# Altium integrated library TI Microcontroller MSP430 16-bit Ultra-Low Power.IntLib: 1463 symbols (part 74 of 130)
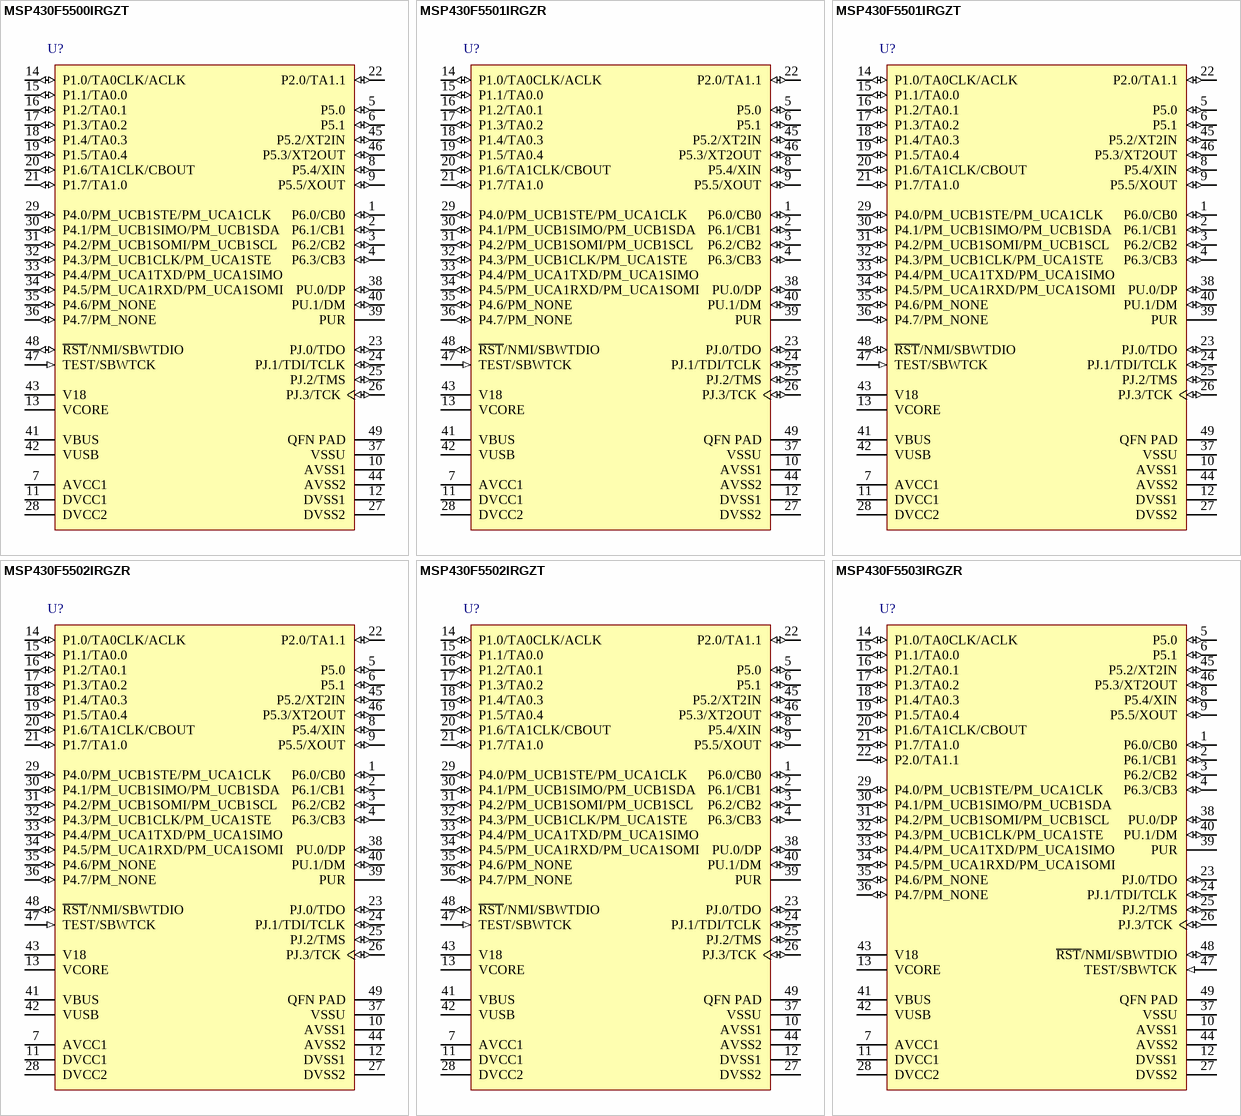
[diagram p372: symbols MSP430F5500IRGZT to MSP430F5503IRGZR]

## MSP430F5502IRGZT
designator U?
25 MHz Mixed Signal Microcontroller with 24 KB Flash, 4096 B SRAM and 31 GPIOs, -40 to 85 degC, 48-pin QFN (RGZ), Green (RoHS & no Sb/Br); Manufacturer: Texas Instruments; PartNumber: MSP430F5502IRGZT; Brown Out Reset: Yes; DMA: 3; Flash(KB): 24; Frequency(MHz): 25; GPIO: 31; Multiplier: 32x32; SRAM(B): 4096; SubFamily: 5 Series; Timers - 16-bit: 4; USB: 1; DatasheetVersion: SLAS645G; PackageVersion: 4204101/F; PackageReference: RGZ48-5150X5150TP; PackageDescription: 48-Pin Plastic Flat Pack, Body 7 x 7 mm, Pitch 0.5 mm; Supplier 1: Digi-Key; Supplier Part Number 1: 296-27554-2-ND; Supplier 2: Digi-Key; Supplier Part Number 2: 296-27554-1-ND; Supplier 3: Digi-Key; Supplier Part Number 3: 296-27554-6-ND; Supplier 4: Farnell; Supplier Part Number 4: 1866792; Supplier 5: Newark; Supplier Part Number 5: 27T6607; Supplier 6: Mouser; Supplier Part Number 6: 595-MSP430F5502IRGZR; Comparators: Yes; Eco-Plan: Green (RoHS & no Sb/Br); Real-Time Clock: Yes; SVS: Yes; USCI_A (UART/LIN/IrDA/SPI): 1; USCI_B (I2C & SPI): 1; Watchdog: Yes; Mounting Technology: Surface Mount; Code_JEDEC: MO-220; ComponentLink1Description: Manufacturer URL; ComponentLink1URL: http://www.ti.com/; ComponentLink2Description: Datasheet; ComponentLink2URL: http://www.ti.com/general/docs/lit/getliterature.tsp?genericPartNumber=MSP430F5502&fileType=pdf; ComponentLink3Description: Package Specification; ComponentLink3URL: http://www.ti.com/lit/ml/mpqf123e/mpqf123e.pdf
footprint TI-RGZ48-5150X5150TP_N (QFN, 48-Leads, Body 7x7mm, Pitch 0.5mm, Thermal Pad 5.15X5.15mm, IPC Medium Density)
pins: 1 P6.0/CB0 (io), 2 P6.1/CB1 (io), 3 P6.2/CB2 (io), 4 P6.3/CB3 (io), 5 P5.0 (io) "General-purpose digital I/O", 6 P5.1 (io) "General-purpose digital I/O", 7 AVCC1 (power) "Analog power supply", 8 P5.4/XIN (io), 9 P5.5/XOUT (io), 10 AVSS1 (power) "Analog ground supply", 11 DVCC1 (power) "Digital power supply", 12 DVSS1 (power) "Digital ground supply", 13 VCORE "Regulated core power supply output (internal use only, no external current loading)", 14 P1.0/TA0CLK/ACLK (io), 15 P1.1/TA0.0 (io), 16 P1.2/TA0.1 (io), 17 P1.3/TA0.2 (io), 18 P1.4/TA0.3 (io), 19 P1.5/TA0.4 (io), 20 P1.6/TA1CLK/CBOUT (io), 21 P1.7/TA1.0 (io), 22 P2.0/TA1.1 (io), 23 PJ.0/TDO (io), 24 PJ.1/TDI/TCLK (io), 25 PJ.2/TMS (io), 26 PJ.3/TCK (io), 27 DVSS2 (power) "Digital ground supply", 28 DVCC2 (power) "Digital power supply", 29 P4.0/PM_UCB1STE/PM_UCA1CLK (io), 30 P4.1/PM_UCB1SIMO/PM_UCB1SDA (io), 31 P4.2/PM_UCB1SOMI/PM_UCB1SCL (io), 32 P4.3/PM_UCB1CLK/PM_UCA1STE (io), 33 P4.4/PM_UCA1TXD/PM_UCA1SIMO (io), 34 P4.5/PM_UCA1RXD/PM_UCA1SOMI (io), 35 P4.6/PM_NONE (io), 36 P4.7/PM_NONE (io), 37 VSSU (power) "USB PHY ground supply", 38 PU.0/DP (io), 39 PUR "USB pullup resistor pin (open drain). The voltage level at the PUR pin is PUR 51 39 B7 I/O used to invoke the default USB BSL. Recommended 1-Mohm resistor to ground.", 40 PU.1/DM (io), 41 VBUS (power) "USB LDO input (connect to USB power source)", 42 VUSB (power) "USB LDO output", 43 V18 "USB regulated power (internal use only, no external current loading)", 44 AVSS2 (power) "Analog ground supply", 45 P5.2/XT2IN (io), 46 P5.3/XT2OUT (io), 47 TEST/SBWTCK (in), 48 ~{RST}/NMI/SBWTDIO (io), 49 QFN PAD (power) "Exposed QFN package pad. Connection to VSS recommended (not available on PT package devices)"

## MSP430F5503IRGZR
designator U?
25 MHz Mixed Signal Microcontroller with 32 KB Flash, 4096 B SRAM and 31 GPIOs, -40 to 85 degC, 48-pin QFN (RGZ), Green (RoHS & no Sb/Br); Manufacturer: Texas Instruments; PartNumber: MSP430F5503IRGZR; Brown Out Reset: Yes; DMA: 3; Flash(KB): 32; Frequency(MHz): 25; GPIO: 31; Multiplier: 32x32; SRAM(B): 4096; SubFamily: 5 Series; Timers - 16-bit: 4; USB: 1; DatasheetVersion: SLAS645G; PackageVersion: 4204101/F; PackageReference: RGZ48-5150X5150TP; PackageDescription: 48-Pin Plastic Flat Pack, Body 7 x 7 mm, Pitch 0.5 mm; Supplier 1: Digi-Key; Supplier Part Number 1: MSP430F5502IRGZT-ND; Supplier 2: Mouser; Supplier Part Number 2: 595-MSP430F5502IRGZT; Comparators: Yes; Eco-Plan: Green (RoHS & no Sb/Br); Real-Time Clock: Yes; SVS: Yes; USCI_A (UART/LIN/IrDA/SPI): 1; USCI_B (I2C & SPI): 1; Watchdog: Yes; Mounting Technology: Surface Mount; Code_JEDEC: MO-220; ComponentLink1Description: Manufacturer URL; ComponentLink1URL: http://www.ti.com/; ComponentLink2Description: Datasheet; ComponentLink2URL: http://www.ti.com/general/docs/lit/getliterature.tsp?genericPartNumber=MSP430F5503&fileType=pdf; ComponentLink3Description: Package Specification; ComponentLink3URL: http://www.ti.com/lit/ml/mpqf123e/mpqf123e.pdf
footprint TI-RGZ48-5150X5150TP_N (QFN, 48-Leads, Body 7x7mm, Pitch 0.5mm, Thermal Pad 5.15X5.15mm, IPC Medium Density)
pins: 1 P6.0/CB0 (io), 2 P6.1/CB1 (io), 3 P6.2/CB2 (io), 4 P6.3/CB3 (io), 5 P5.0 (io) "General-purpose digital I/O Analog input A9 - ADC (not available on F5503, F5502, F5501, F5500 devices) Negative terminal for an externally provided ADC reference (not available on F5503, F5502, F5501, F5500 devices)", 6 P5.1 (io) "General-purpose digital I/O Analog input A9 - ADC (not available on F5503, F5502, F5501, F5500 devices) Negative terminal for an externally provided ADC reference (not available on F5503, F5502, F5501, F5500 devices)", 7 AVCC1 (power) "Analog power supply", 8 P5.4/XIN (io), 9 P5.5/XOUT (io), 10 AVSS1 (power) "Analog ground supply", 11 DVCC1 (power) "Digital power supply", 12 DVSS1 (power) "Digital ground supply", 13 VCORE "Regulated core power supply output (internal use only, no external current loading)", 14 P1.0/TA0CLK/ACLK (io), 15 P1.1/TA0.0 (io), 16 P1.2/TA0.1 (io), 17 P1.3/TA0.2 (io), 18 P1.4/TA0.3 (io), 19 P1.5/TA0.4 (io), 20 P1.6/TA1CLK/CBOUT (io), 21 P1.7/TA1.0 (io), 22 P2.0/TA1.1 (io), 23 PJ.0/TDO (io), 24 PJ.1/TDI/TCLK (io), 25 PJ.2/TMS (io), 26 PJ.3/TCK (io), 27 DVSS2 (power) "Digital ground supply", 28 DVCC2 (power) "Digital power supply", 29 P4.0/PM_UCB1STE/PM_UCA1CLK (io), 30 P4.1/PM_UCB1SIMO/PM_UCB1SDA (io), 31 P4.2/PM_UCB1SOMI/PM_UCB1SCL (io), 32 P4.3/PM_UCB1CLK/PM_UCA1STE (io), 33 P4.4/PM_UCA1TXD/PM_UCA1SIMO (io), 34 P4.5/PM_UCA1RXD/PM_UCA1SOMI (io), 35 P4.6/PM_NONE (io), 36 P4.7/PM_NONE (io), 37 VSSU (power) "USB PHY ground supply", 38 PU.0/DP (io), 39 PUR "USB pullup resistor pin (open drain). The voltage level at the PUR pin is used to invoke the default USB BSL. Recommended 1-Mohm resistor to ground. See USB BSL for more information.", 40 PU.1/DM (io), 41 VBUS (power) "USB LDO input (connect to USB power source)", 42 VUSB (power) "USB LDO output", 43 V18 "USB regulated power (internal use only, no external current loading)", 44 AVSS2 (power) "Analog ground supply", 45 P5.2/XT2IN (io), 46 P5.3/XT2OUT (io), 47 TEST/SBWTCK (in), 48 ~{RST}/NMI/SBWTDIO (io), 49 QFN PAD (power) "Exposed QFN package pad. Connection to VSS recommended (not available on PT package devices)"

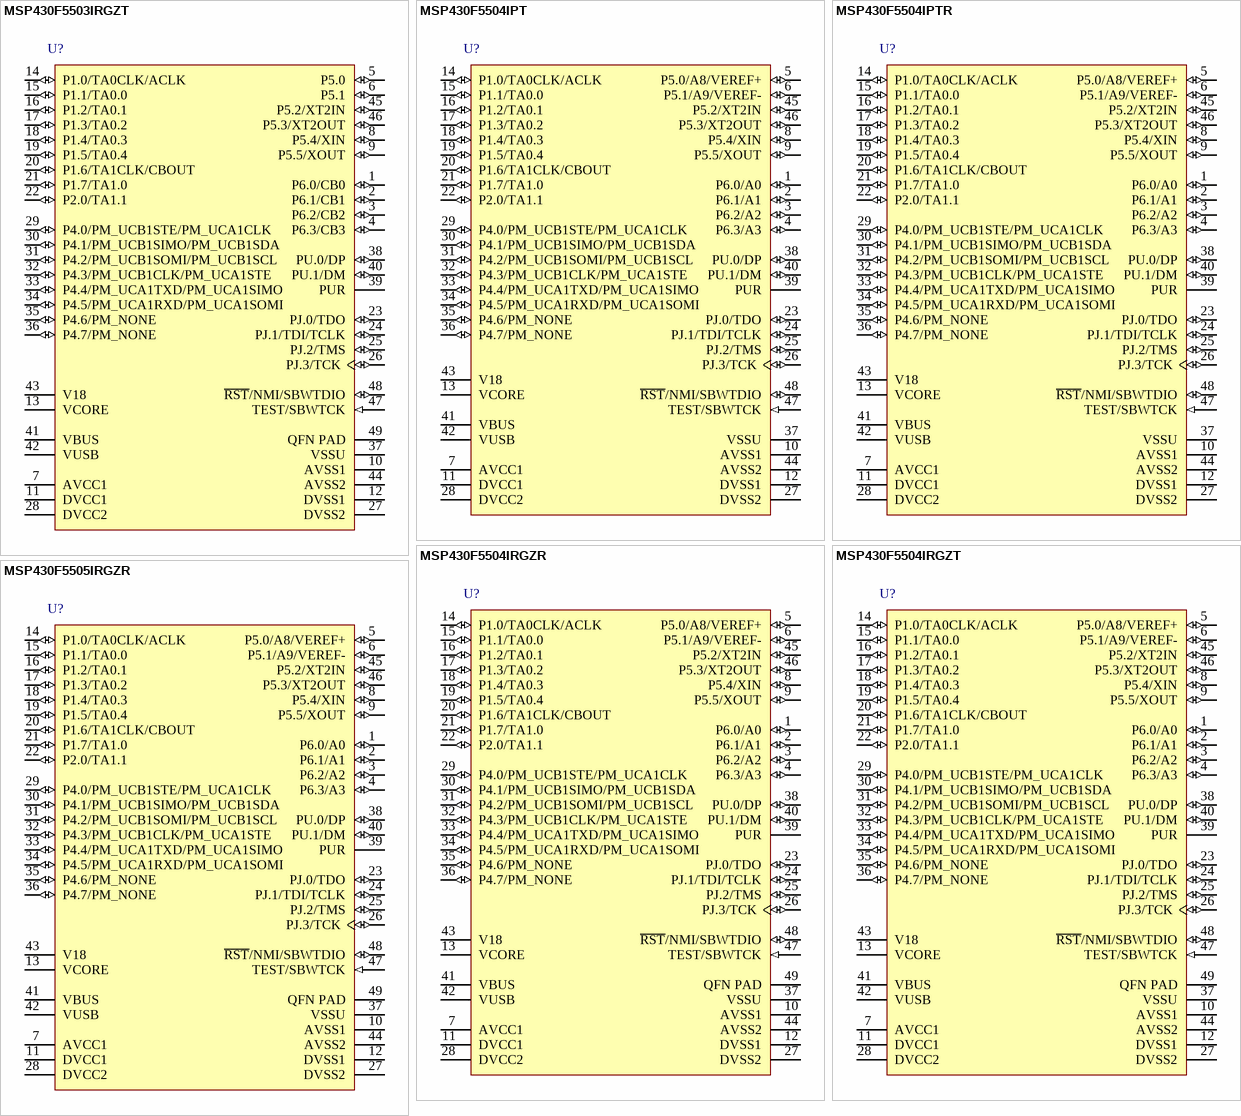
[diagram p114: symbols MSP430F5503IRGZT to MSP430F5505IRGZR]

## MSP430F5503IRGZT
designator U?
25 MHz Mixed Signal Microcontroller with 32 KB Flash, 4096 B SRAM and 31 GPIOs, -40 to 85 degC, 48-pin QFN (RGZ), Green (RoHS & no Sb/Br); Manufacturer: Texas Instruments; PartNumber: MSP430F5503IRGZT; Brown Out Reset: Yes; DMA: 3; Flash(KB): 32; Frequency(MHz): 25; GPIO: 31; Multiplier: 32x32; SRAM(B): 4096; SubFamily: 5 Series; Timers - 16-bit: 4; USB: 1; DatasheetVersion: SLAS645G; PackageVersion: 4204101/F; PackageReference: RGZ48-5150X5150TP; PackageDescription: 48-Pin Plastic Flat Pack, Body 7 x 7 mm, Pitch 0.5 mm; Supplier 1: Digi-Key; Supplier Part Number 1: 296-27556-2-ND; Supplier 2: Digi-Key; Supplier Part Number 2: 296-27556-1-ND; Supplier 3: Digi-Key; Supplier Part Number 3: 296-27556-6-ND; Supplier 4: Newark; Supplier Part Number 4: 32T2961; Supplier 5: Mouser; Supplier Part Number 5: 595-MSP430F5503IRGZR; Comparators: Yes; Eco-Plan: Green (RoHS & no Sb/Br); Real-Time Clock: Yes; SVS: Yes; USCI_A (UART/LIN/IrDA/SPI): 1; USCI_B (I2C & SPI): 1; Watchdog: Yes; Mounting Technology: Surface Mount; Code_JEDEC: MO-220; ComponentLink1Description: Manufacturer URL; ComponentLink1URL: http://www.ti.com/; ComponentLink2Description: Datasheet; ComponentLink2URL: http://www.ti.com/general/docs/lit/getliterature.tsp?genericPartNumber=MSP430F5503&fileType=pdf; ComponentLink3Description: Package Specification; ComponentLink3URL: http://www.ti.com/lit/ml/mpqf123e/mpqf123e.pdf
footprint TI-RGZ48-5150X5150TP_N (QFN, 48-Leads, Body 7x7mm, Pitch 0.5mm, Thermal Pad 5.15X5.15mm, IPC Medium Density)
pins: 1 P6.0/CB0 (io), 2 P6.1/CB1 (io), 3 P6.2/CB2 (io), 4 P6.3/CB3 (io), 5 P5.0 (io) "General-purpose digital I/O Analog input A9 - ADC (not available on F5503, F5502, F5501, F5500 devices) Negative terminal for an externally provided ADC reference (not available on F5503, F5502, F5501, F5500 devices)", 6 P5.1 (io) "General-purpose digital I/O Analog input A9 - ADC (not available on F5503, F5502, F5501, F5500 devices) Negative terminal for an externally provided ADC reference (not available on F5503, F5502, F5501, F5500 devices)", 7 AVCC1 (power) "Analog power supply", 8 P5.4/XIN (io), 9 P5.5/XOUT (io), 10 AVSS1 (power) "Analog ground supply", 11 DVCC1 (power) "Digital power supply", 12 DVSS1 (power) "Digital ground supply", 13 VCORE "Regulated core power supply output (internal use only, no external current loading)", 14 P1.0/TA0CLK/ACLK (io), 15 P1.1/TA0.0 (io), 16 P1.2/TA0.1 (io), 17 P1.3/TA0.2 (io), 18 P1.4/TA0.3 (io), 19 P1.5/TA0.4 (io), 20 P1.6/TA1CLK/CBOUT (io), 21 P1.7/TA1.0 (io), 22 P2.0/TA1.1 (io), 23 PJ.0/TDO (io), 24 PJ.1/TDI/TCLK (io), 25 PJ.2/TMS (io), 26 PJ.3/TCK (io), 27 DVSS2 (power) "Digital ground supply", 28 DVCC2 (power) "Digital power supply", 29 P4.0/PM_UCB1STE/PM_UCA1CLK (io), 30 P4.1/PM_UCB1SIMO/PM_UCB1SDA (io), 31 P4.2/PM_UCB1SOMI/PM_UCB1SCL (io), 32 P4.3/PM_UCB1CLK/PM_UCA1STE (io), 33 P4.4/PM_UCA1TXD/PM_UCA1SIMO (io), 34 P4.5/PM_UCA1RXD/PM_UCA1SOMI (io), 35 P4.6/PM_NONE (io), 36 P4.7/PM_NONE (io), 37 VSSU (power) "USB PHY ground supply", 38 PU.0/DP (io), 39 PUR "USB pullup resistor pin (open drain). The voltage level at the PUR pin is used to invoke the default USB BSL. Recommended 1-Mohm resistor to ground. See USB BSL for more information.", 40 PU.1/DM (io), 41 VBUS (power) "USB LDO input (connect to USB power source)", 42 VUSB (power) "USB LDO output", 43 V18 "USB regulated power (internal use only, no external current loading)", 44 AVSS2 (power) "Analog ground supply", 45 P5.2/XT2IN (io), 46 P5.3/XT2OUT (io), 47 TEST/SBWTCK (in), 48 ~{RST}/NMI/SBWTDIO (io), 49 QFN PAD (power) "Exposed QFN package pad. Connection to VSS recommended (not available on PT package devices)"

## MSP430F5504IPT
designator U?
25 MHz Mixed Signal Microcontroller with 8 KB Flash, 4096 B SRAM and 31 GPIOs, -40 to 85 degC, 48-pin QFP (PT), Green (RoHS & no Sb/Br); Manufacturer: Texas Instruments; PartNumber: MSP430F5504IPT; ADC: 10-bit SAR; ADC Channels: 8; Brown Out Reset: Yes; DMA: 3; Frequency(MHz): 25; GPIO: 31; Multiplier: 32x32; SRAM(B): 4096; SubFamily: 5 Series; Timers - 16-bit: 4; USB: 1; DatasheetVersion: SLAS645G; PackageReference: PT48; PackageDescription: 48-Pin Plastic Flat Pack, Body 7.00 x 7.00 mm, Pitch 0.50 mm; Supplier 1: Digi-Key; Supplier Part Number 1: MSP430F5503IRGZT-ND; Supplier 2: Newark; Supplier Part Number 2: 32T2962; Supplier 3: Mouser; Supplier Part Number 3: 595-MSP430F5503IRGZT; Eco-Plan: Green (RoHS & no Sb/Br); Flash(KB): 8; Real-Time Clock: Yes; SVS: Yes; Temp Sensor: Yes; USCI_A (UART/LIN/IrDA/SPI): 1; USCI_B (I2C & SPI): 1; Watchdog: Yes; Mounting Technology: Surface Mount; Code_JEDEC: MS-026; ComponentLink1Description: Manufacturer URL; ComponentLink1URL: http://www.ti.com/; ComponentLink2Description: Datasheet; ComponentLink2URL: http://www.ti.com/general/docs/lit/getliterature.tsp?genericPartNumber=MSP430F5504&fileType=pdf; ComponentLink3Description: Package Specification; ComponentLink3URL: http://www.ti.com/lit/ml/mtqf003a/mtqf003a.pdf
footprint TI-PT48_N (QFP, 48-Leads, Body 7x7mm, Pitch 0.5mm, IPC Medium Density)
pins: 1 P6.0/A0 (io), 2 P6.1/A1 (io), 3 P6.2/A2 (io), 4 P6.3/A3 (io), 5 P5.0/A8/VEREF+ (io), 6 P5.1/A9/VEREF- (io), 7 AVCC1 (power) "Analog power supply", 8 P5.4/XIN (io), 9 P5.5/XOUT (io), 10 AVSS1 (power) "Analog ground supply", 11 DVCC1 (power) "Digital power supply", 12 DVSS1 (power) "Digital ground supply", 13 VCORE "Regulated core power supply output (internal use only, no external current loading)", 14 P1.0/TA0CLK/ACLK (io), 15 P1.1/TA0.0 (io), 16 P1.2/TA0.1 (io), 17 P1.3/TA0.2 (io), 18 P1.4/TA0.3 (io), 19 P1.5/TA0.4 (io), 20 P1.6/TA1CLK/CBOUT (io), 21 P1.7/TA1.0 (io), 22 P2.0/TA1.1 (io), 23 PJ.0/TDO (io), 24 PJ.1/TDI/TCLK (io), 25 PJ.2/TMS (io), 26 PJ.3/TCK (io), 27 DVSS2 (power) "Digital ground supply", 28 DVCC2 (power) "Digital power supply", 29 P4.0/PM_UCB1STE/PM_UCA1CLK (io), 30 P4.1/PM_UCB1SIMO/PM_UCB1SDA (io), 31 P4.2/PM_UCB1SOMI/PM_UCB1SCL (io), 32 P4.3/PM_UCB1CLK/PM_UCA1STE (io), 33 P4.4/PM_UCA1TXD/PM_UCA1SIMO (io), 34 P4.5/PM_UCA1RXD/PM_UCA1SOMI (io), 35 P4.6/PM_NONE (io), 36 P4.7/PM_NONE (io), 37 VSSU (power) "USB PHY ground supply", 38 PU.0/DP (io), 39 PUR "USB pullup resistor pin (open drain). The voltage level at the PUR pin is used to invoke the default USB BSL. Recommended 1-Mohm resistor to ground. See USB BSL for more information.", 40 PU.1/DM (io), 41 VBUS (power) "USB LDO input (connect to USB power source)", 42 VUSB (power) "USB LDO output", 43 V18 "USB regulated power (internal use only, no external current loading)", 44 AVSS2 (power) "Analog ground supply", 45 P5.2/XT2IN (io), 46 P5.3/XT2OUT (io), 47 TEST/SBWTCK (in), 48 ~{RST}/NMI/SBWTDIO (io)

## MSP430F5504IPTR
designator U?
25 MHz Mixed Signal Microcontroller with 8 KB Flash, 4096 B SRAM and 31 GPIOs, -40 to 85 degC, 48-pin QFP (PT), Green (RoHS & no Sb/Br); Manufacturer: Texas Instruments; PartNumber: MSP430F5504IPTR; ADC: 10-bit SAR; ADC Channels: 8; Brown Out Reset: Yes; DMA: 3; Frequency(MHz): 25; GPIO: 31; Multiplier: 32x32; SRAM(B): 4096; SubFamily: 5 Series; Timers - 16-bit: 4; USB: 1; DatasheetVersion: SLAS645G; PackageReference: PT48; PackageDescription: 48-Pin Plastic Flat Pack, Body 7.00 x 7.00 mm, Pitch 0.50 mm; Supplier 1: Digi-Key; Supplier Part Number 1: MSP430F5504IPT-ND; Supplier 2: Newark; Supplier Part Number 2: 32T2963; Supplier 3: Mouser; Supplier Part Number 3: 595-MSP430F5504IPT; Eco-Plan: Green (RoHS & no Sb/Br); Flash(KB): 8; Real-Time Clock: Yes; SVS: Yes; Temp Sensor: Yes; USCI_A (UART/LIN/IrDA/SPI): 1; USCI_B (I2C & SPI): 1; Watchdog: Yes; Mounting Technology: Surface Mount; Code_JEDEC: MS-026; ComponentLink1Description: Manufacturer URL; ComponentLink1URL: http://www.ti.com/; ComponentLink2Description: Datasheet; ComponentLink2URL: http://www.ti.com/general/docs/lit/getliterature.tsp?genericPartNumber=MSP430F5504&fileType=pdf; ComponentLink3Description: Package Specification; ComponentLink3URL: http://www.ti.com/lit/ml/mtqf003a/mtqf003a.pdf
footprint TI-PT48_N (QFP, 48-Leads, Body 7x7mm, Pitch 0.5mm, IPC Medium Density)
pins: 1 P6.0/A0 (io), 2 P6.1/A1 (io), 3 P6.2/A2 (io), 4 P6.3/A3 (io), 5 P5.0/A8/VEREF+ (io), 6 P5.1/A9/VEREF- (io), 7 AVCC1 (power) "Analog power supply", 8 P5.4/XIN (io), 9 P5.5/XOUT (io), 10 AVSS1 (power) "Analog ground supply", 11 DVCC1 (power) "Digital power supply", 12 DVSS1 (power) "Digital ground supply", 13 VCORE "Regulated core power supply output (internal use only, no external current loading)", 14 P1.0/TA0CLK/ACLK (io), 15 P1.1/TA0.0 (io), 16 P1.2/TA0.1 (io), 17 P1.3/TA0.2 (io), 18 P1.4/TA0.3 (io), 19 P1.5/TA0.4 (io), 20 P1.6/TA1CLK/CBOUT (io), 21 P1.7/TA1.0 (io), 22 P2.0/TA1.1 (io), 23 PJ.0/TDO (io), 24 PJ.1/TDI/TCLK (io), 25 PJ.2/TMS (io), 26 PJ.3/TCK (io), 27 DVSS2 (power) "Digital ground supply", 28 DVCC2 (power) "Digital power supply", 29 P4.0/PM_UCB1STE/PM_UCA1CLK (io), 30 P4.1/PM_UCB1SIMO/PM_UCB1SDA (io), 31 P4.2/PM_UCB1SOMI/PM_UCB1SCL (io), 32 P4.3/PM_UCB1CLK/PM_UCA1STE (io), 33 P4.4/PM_UCA1TXD/PM_UCA1SIMO (io), 34 P4.5/PM_UCA1RXD/PM_UCA1SOMI (io), 35 P4.6/PM_NONE (io), 36 P4.7/PM_NONE (io), 37 VSSU (power) "USB PHY ground supply", 38 PU.0/DP (io), 39 PUR "USB pullup resistor pin (open drain). The voltage level at the PUR pin is used to invoke the default USB BSL. Recommended 1-Mohm resistor to ground. See USB BSL for more information.", 40 PU.1/DM (io), 41 VBUS (power) "USB LDO input (connect to USB power source)", 42 VUSB (power) "USB LDO output", 43 V18 "USB regulated power (internal use only, no external current loading)", 44 AVSS2 (power) "Analog ground supply", 45 P5.2/XT2IN (io), 46 P5.3/XT2OUT (io), 47 TEST/SBWTCK (in), 48 ~{RST}/NMI/SBWTDIO (io)

## MSP430F5504IRGZR
designator U?
25 MHz Mixed Signal Microcontroller with 8 KB Flash, 4096 B SRAM and 31 GPIOs, -40 to 85 degC, 48-pin QFN (RGZ), Green (RoHS & no Sb/Br); Manufacturer: Texas Instruments; PartNumber: MSP430F5504IRGZR; ADC: 10-bit SAR; ADC Channels: 8; Brown Out Reset: Yes; DMA: 3; Frequency(MHz): 25; GPIO: 31; Multiplier: 32x32; SRAM(B): 4096; SubFamily: 5 Series; Timers - 16-bit: 4; USB: 1; DatasheetVersion: SLAS645G; PackageVersion: 4204101/F; PackageReference: RGZ48-5150X5150TP; PackageDescription: 48-Pin Plastic Flat Pack, Body 7 x 7 mm, Pitch 0.5 mm; Supplier 1: Digi-Key; Supplier Part Number 1: MSP430F5504IPTR-ND; Supplier 2: Mouser; Supplier Part Number 2: 595-MSP430F5504IPTR; Eco-Plan: Green (RoHS & no Sb/Br); Flash(KB): 8; Real-Time Clock: Yes; SVS: Yes; Temp Sensor: Yes; USCI_A (UART/LIN/IrDA/SPI): 1; USCI_B (I2C & SPI): 1; Watchdog: Yes; Mounting Technology: Surface Mount; Code_JEDEC: MO-220; ComponentLink1Description: Manufacturer URL; ComponentLink1URL: http://www.ti.com/; ComponentLink2Description: Datasheet; ComponentLink2URL: http://www.ti.com/general/docs/lit/getliterature.tsp?genericPartNumber=MSP430F5504&fileType=pdf; ComponentLink3Description: Package Specification; ComponentLink3URL: http://www.ti.com/lit/ml/mpqf123e/mpqf123e.pdf
footprint TI-RGZ48-5150X5150TP_N (QFN, 48-Leads, Body 7x7mm, Pitch 0.5mm, Thermal Pad 5.15X5.15mm, IPC Medium Density)
pins: 1 P6.0/A0 (io), 2 P6.1/A1 (io), 3 P6.2/A2 (io), 4 P6.3/A3 (io), 5 P5.0/A8/VEREF+ (io), 6 P5.1/A9/VEREF- (io), 7 AVCC1 (power) "Analog power supply", 8 P5.4/XIN (io), 9 P5.5/XOUT (io), 10 AVSS1 (power) "Analog ground supply", 11 DVCC1 (power) "Digital power supply", 12 DVSS1 (power) "Digital ground supply", 13 VCORE "Regulated core power supply output (internal use only, no external current loading)", 14 P1.0/TA0CLK/ACLK (io), 15 P1.1/TA0.0 (io), 16 P1.2/TA0.1 (io), 17 P1.3/TA0.2 (io), 18 P1.4/TA0.3 (io), 19 P1.5/TA0.4 (io), 20 P1.6/TA1CLK/CBOUT (io), 21 P1.7/TA1.0 (io), 22 P2.0/TA1.1 (io), 23 PJ.0/TDO (io), 24 PJ.1/TDI/TCLK (io), 25 PJ.2/TMS (io), 26 PJ.3/TCK (io), 27 DVSS2 (power) "Digital ground supply", 28 DVCC2 (power) "Digital power supply", 29 P4.0/PM_UCB1STE/PM_UCA1CLK (io), 30 P4.1/PM_UCB1SIMO/PM_UCB1SDA (io), 31 P4.2/PM_UCB1SOMI/PM_UCB1SCL (io), 32 P4.3/PM_UCB1CLK/PM_UCA1STE (io), 33 P4.4/PM_UCA1TXD/PM_UCA1SIMO (io), 34 P4.5/PM_UCA1RXD/PM_UCA1SOMI (io), 35 P4.6/PM_NONE (io), 36 P4.7/PM_NONE (io), 37 VSSU (power) "USB PHY ground supply", 38 PU.0/DP (io), 39 PUR "USB pullup resistor pin (open drain). The voltage level at the PUR pin is used to invoke the default USB BSL. Recommended 1-Mohm resistor to ground. See USB BSL for more information.", 40 PU.1/DM (io), 41 VBUS (power) "USB LDO input (connect to USB power source)", 42 VUSB (power) "USB LDO output", 43 V18 "USB regulated power (internal use only, no external current loading)", 44 AVSS2 (power) "Analog ground supply", 45 P5.2/XT2IN (io), 46 P5.3/XT2OUT (io), 47 TEST/SBWTCK (in), 48 ~{RST}/NMI/SBWTDIO (io), 49 QFN PAD (power) "Exposed QFN package pad. Connection to VSS recommended (not available on PT package devices)"